# EAGLE library part RP2350B (library RpiPico)
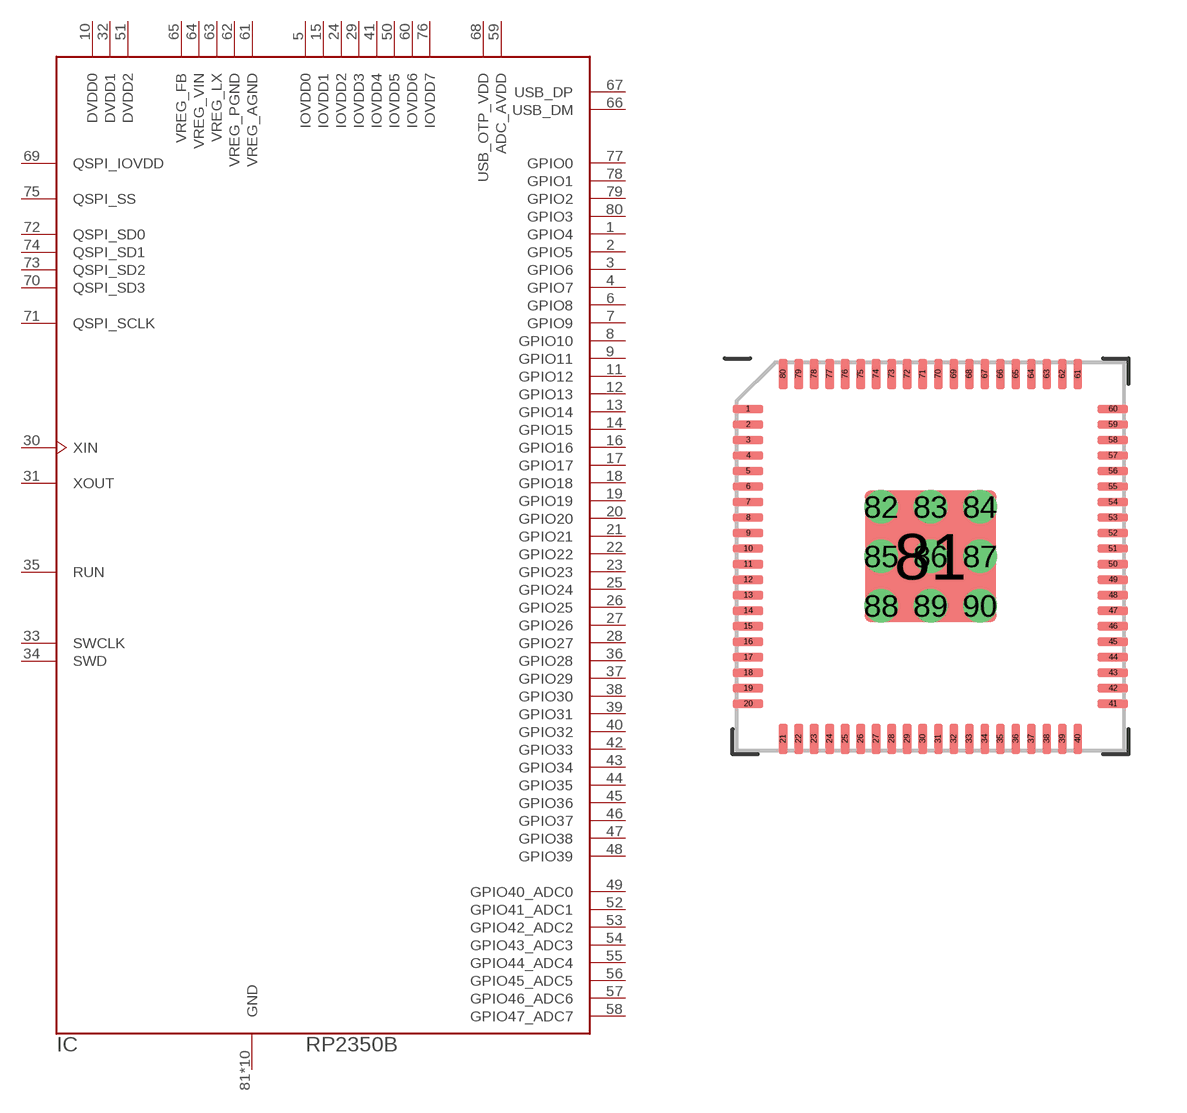
[diagram p4: symbol with the pads of RP2350-QFN80; footprint RP2350-QFN80]

Designator prefix IC

## RP2350B  [RP2350-QFN80]
1  GPIO4
2  GPIO5
3  GPIO6
4  GPIO7
5  IOVDD0  pwr
6  GPIO8
7  GPIO9
8  GPIO10
9  GPIO11
10  DVDD0  pwr
11  GPIO12
12  GPIO13
13  GPIO14
14  GPIO15
15  IOVDD1  pwr
16  GPIO16
17  GPIO17
18  GPIO18
19  GPIO19
20  GPIO20
21  GPIO21
22  GPIO22
23  GPIO23
24  IOVDD2  pwr
25  GPIO24
26  GPIO25
27  GPIO26
28  GPIO27
29  IOVDD3  pwr
30  XIN  in
31  XOUT  pas
32  DVDD1  pwr
33  SWCLK  out
34  SWD
35  RUN  in
36  GPIO28
37  GPIO29
38  GPIO30
39  GPIO31
40  GPIO32
41  IOVDD4  pwr
42  GPIO33
43  GPIO34
44  GPIO35
45  GPIO36
46  GPIO37
47  GPIO38
48  GPIO39
49  GPIO40_ADC0
50  IOVDD5  pwr
51  DVDD2  pwr
52  GPIO41_ADC1
53  GPIO42_ADC2
54  GPIO43_ADC3
55  GPIO44_ADC4
56  GPIO45_ADC5
57  GPIO46_ADC6
58  GPIO47_ADC7
59  ADC_AVDD  pwr
60  IOVDD6  pwr
61  VREG_AGND  pwr
62  VREG_PGND  pwr
63  VREG_LX  pwr
64  VREG_VIN  pwr
65  VREG_FB  pwr
66  USB_DM
67  USB_DP
68  USB_OTP_VDD  pwr
69  QSPI_IOVDD  pwr
70  QSPI_SD3
71  QSPI_SCLK  out
72  QSPI_SD0
73  QSPI_SD2
74  QSPI_SD1
75  QSPI_SS
76  IOVDD7  pwr
77  GPIO0
78  GPIO1
79  GPIO2
80  GPIO3
81  GND  pwr
82  GND  pwr
83  GND  pwr
84  GND  pwr
85  GND  pwr
86  GND  pwr
87  GND  pwr
88  GND  pwr
89  GND  pwr
90  GND  pwr

## Footprint RP2350-QFN80 (pad centres in mm)
smd 0.78 x 0.22: 1 -4.702,3.8; 2 -4.702,3.4; 3 -4.702,3; 4 -4.702,2.6; 5 -4.702,2.2; 6 -4.702,1.8; 7 -4.702,1.4; 8 -4.702,1; 9 -4.702,0.6; 10 -4.702,0.2; 11 -4.702,-0.2; 12 -4.702,-0.6; 13 -4.702,-1; 14 -4.702,-1.4; 15 -4.702,-1.8; 16 -4.702,-2.2; 17 -4.702,-2.6; 18 -4.702,-3; 19 -4.702,-3.4; 20 -4.702,-3.8; 41 4.702,-3.8; 42 4.702,-3.4; 43 4.702,-3; 44 4.702,-2.6; 45 4.702,-2.2; 46 4.702,-1.8; 47 4.702,-1.4; 48 4.702,-1; 49 4.702,-0.6; 50 4.702,-0.2; 51 4.702,0.2; 52 4.702,0.6; 53 4.702,1; 54 4.702,1.4; 55 4.702,1.8; 56 4.702,2.2; 57 4.702,2.6; 58 4.702,3; 59 4.702,3.4; 60 4.702,3.8
smd 0.22 x 0.78: 21 -3.8,-4.702; 22 -3.4,-4.702; 23 -3,-4.702; 24 -2.6,-4.702; 25 -2.2,-4.702; 26 -1.8,-4.702; 27 -1.4,-4.702; 28 -1,-4.702; 29 -0.6,-4.702; 30 -0.2,-4.702; 31 0.2,-4.702; 32 0.6,-4.702; 33 1,-4.702; 34 1.4,-4.702; 35 1.8,-4.702; 36 2.2,-4.702; 37 2.6,-4.702; 38 3,-4.702; 39 3.4,-4.702; 40 3.8,-4.702; 61 3.8,4.702; 62 3.4,4.702; 63 3,4.702; 64 2.6,4.702; 65 2.2,4.702; 66 1.8,4.702; 67 1.4,4.702; 68 1,4.702; 69 0.6,4.702; 70 0.2,4.702; 71 -0.2,4.702; 72 -0.6,4.702; 73 -1,4.702; 74 -1.4,4.702; 75 -1.8,4.702; 76 -2.2,4.702; 77 -2.6,4.702; 78 -3,4.702; 79 -3.4,4.702; 80 -3.8,4.702
smd 3.4 x 3.4: 81 0,0
drill 0.35 pad 0.6: 82 -1.275,1.275; 83 0,1.275; 84 1.275,1.275; 85 -1.275,0; 86 0,0; 87 1.275,0; 88 -1.275,-1.275; 89 0,-1.275; 90 1.275,-1.275